# EAGLE library part PI-HAT-ZERO (library LorangerEngineering)
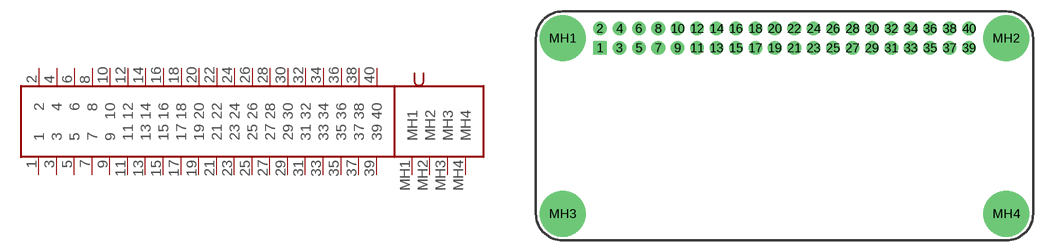
[diagram p0: symbol with the pads of PI-ZERO-HAT; footprint PI-ZERO-HAT]

Designator prefix -

## PI-HAT-ZERO  [PI-ZERO-HAT]
1  1
2  2
3  3
4  4
5  5
6  6
7  7
8  8
9  9
10  10
11  11
12  12
13  13
14  14
15  15
16  16
17  17
18  18
19  19
20  20
21  21
22  22
23  23
24  24
25  25
26  26
27  27
28  28
29  29
30  30
31  31
32  32
33  33
34  34
35  35
36  36
37  37
38  38
39  39
40  40
MH1  MH1
MH2  MH2
MH3  MH3
MH4  MH4

## Footprint PI-ZERO-HAT (pad centres in mm)
drill 1 pad 1.778 square: 1 -24.13,10.23
drill 1 pad 1.778: 2 -24.13,12.77; 3 -21.59,10.23; 4 -21.59,12.77; 5 -19.05,10.23; 6 -19.05,12.77; 7 -16.51,10.23; 8 -16.51,12.77; 9 -13.97,10.23; 10 -13.97,12.77; 11 -11.43,10.23; 12 -11.43,12.77; 13 -8.89,10.23; 14 -8.89,12.77; 15 -6.35,10.23; 16 -6.35,12.77; 17 -3.81,10.23; 18 -3.81,12.77; 19 -1.27,10.23; 20 -1.27,12.77; 21 1.27,10.23; 22 1.27,12.77; 23 3.81,10.23; 24 3.81,12.77; 25 6.35,10.23; 26 6.35,12.77; 27 8.89,10.23; 28 8.89,12.77; 29 11.43,10.23; 30 11.43,12.77; 31 13.97,10.23; 32 13.97,12.77; 33 16.51,10.23; 34 16.51,12.77; 35 19.05,10.23; 36 19.05,12.77; 37 21.59,10.23; 38 21.59,12.77; 39 24.13,10.23; 40 24.13,12.77
drill 2.75 pad 6: MH1 -29,11.5; MH2 29,11.5; MH3 -29,-11.5; MH4 29,-11.5